# Altium schematic symbol library 36.5k.SchLib: 1 symbol
Pins are listed as number, name and electrical type; pins without a type are passive.

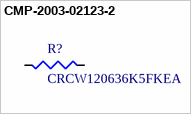
[diagram p0: symbol CMP-2003-02123-2]

## CMP-2003-02123-2
designator R?, comment CRCW120636K5FKEA
RES Thick Film, 36.5kΩ, 1%, 0.25W, 100ppm/°C, 1206
footprint PCBComponent_1
pins: 1, 2